# Altium footprint library 1_to_5_Pin.PcbLib: 174 footprints (part 1 of 11)
Each footprint in its own frame and in the unit in brackets; x right, y up, seen from the top. Pads: shape width x height; smd on the part's side, far side on the other; paste and mask are expansions set on the pad; w line width, h text height; cw(c..) or ccw(c..) is an arc to the next point about the centre after c.
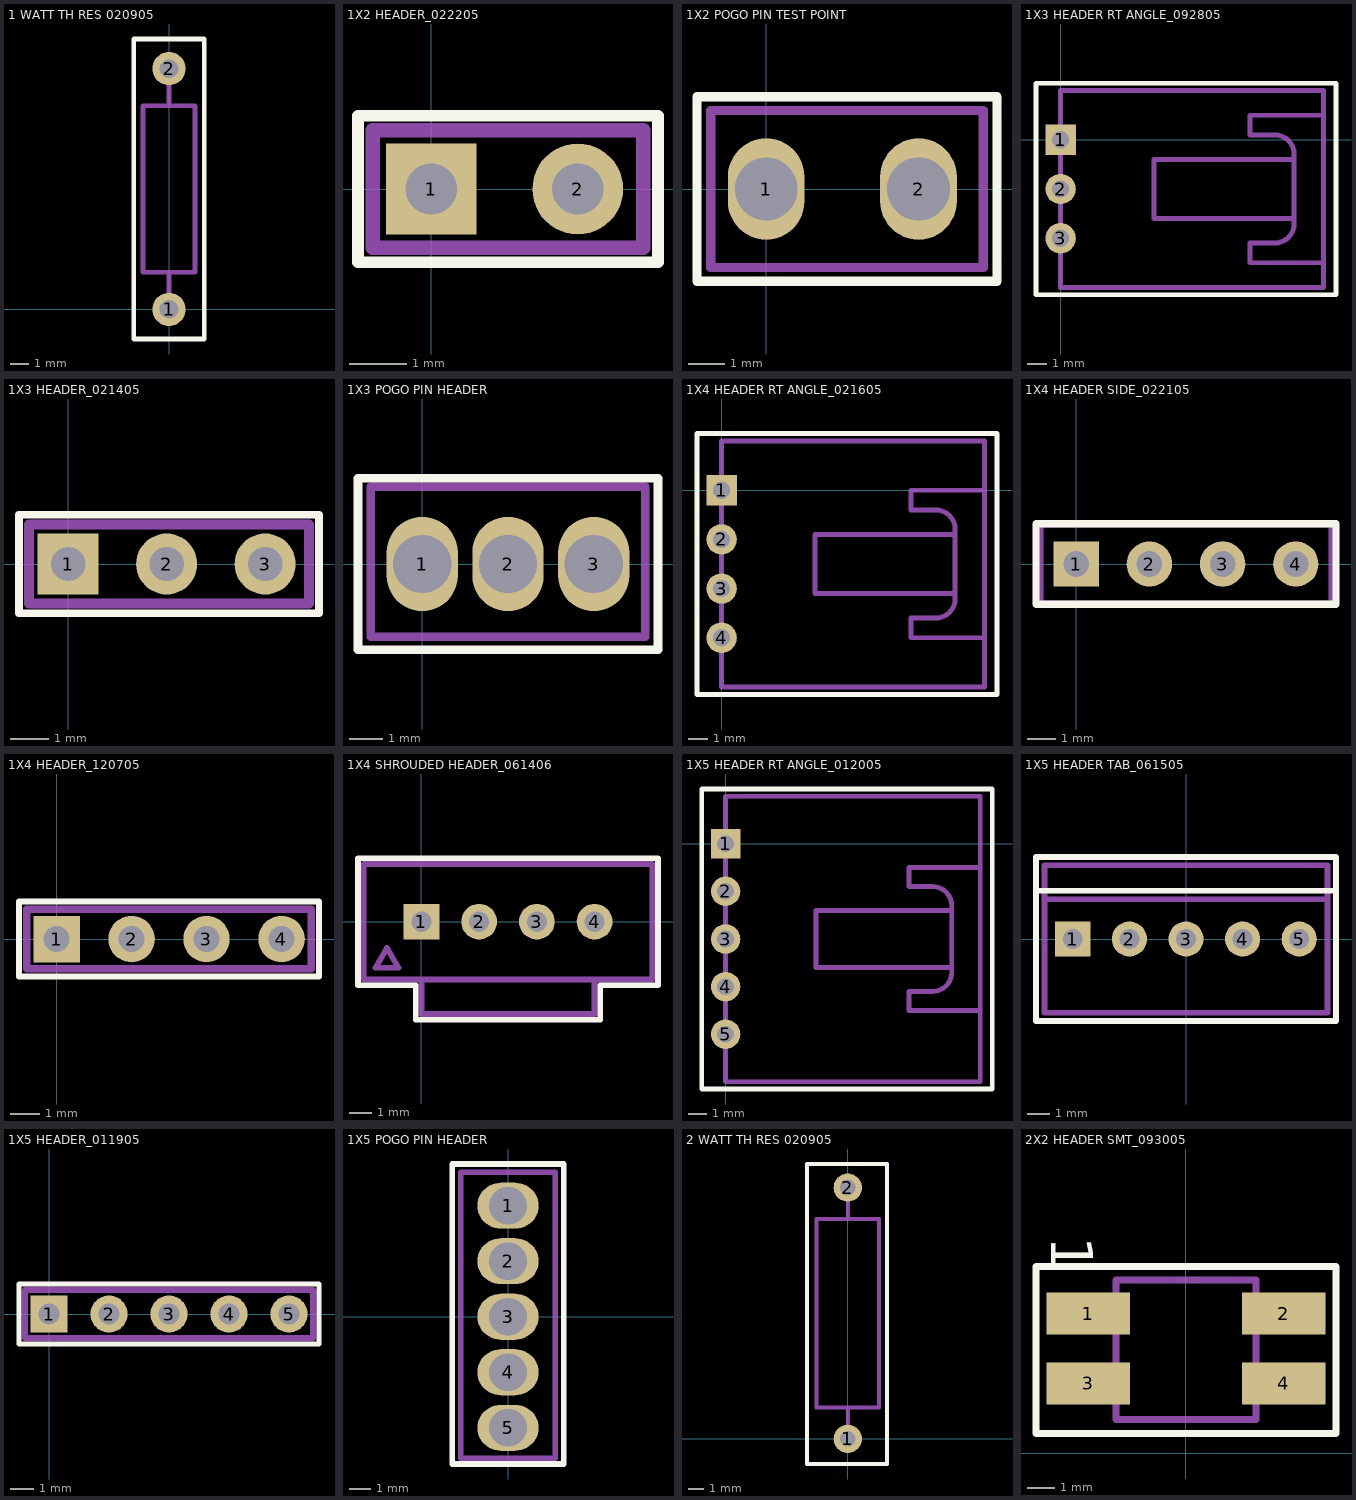
[diagram p0: the footprints below, top view; thin cyan lines are the x and y axes]

## 1 WATT TH RES 020905 [mm] "TH"
height 3.175
pads (2):
  round 1.8 hole 1: 1(0,0) 2(0,13)
Top Overlay:
  lines w0.254: -1.9,-1.6 -1.9,14.6 0,14.6 1.9,14.6 1.9,-1.6 -1.9,-1.6
Assembly Outline:
  lines w0.254: 0,0 0,2 1.4,2 ; 0,13 0,11 -1.4,11 ; -1.4,11 -1.4,2 1.4,2 ; -1.4,11 1.4,11 1.4,2
Assembly Designator:
  text ".Designator" at -2.286,2.794 h1.52
Assembly Comment:
  text ".Comment" at 3.556,3.683 h1.52

## 1X2 HEADER_022205 [mil] "TH"
height 315
pads (2):
  rect 62x62 hole 35: 1(0,0)
  round 62 hole 35: 2(100,0)
Top Overlay:
  lines w8: -50,-50 154.72,-50 154.72,50 -50,50 -50,-50
Assembly Outline:
  lines w10: -40,-40 144.72,-40 144.72,40 -40,40 -40,-40 ; -15,-15 -15,15 15,15 15,-15 -15,-15 ; 85,-15 85,15 115,15 115,-15 85,-15
Assembly Designator:
  text ".Designator" at -20,-20 h40
Assembly Comment:
  text ".Comment" at -75,-100 h40

## 1X2 POGO PIN TEST POINT [mil] "TH"
height 750
pads (2):
  oval 83x110 hole 68: 1(0,0) 2(165,0)
Top Overlay:
  lines w10: -75,-100 250,-100 250,100 0,100 -75,100 -75,-100
Assembly Outline:
  lines w10: -60,-85 235,-85 235,85 -60,85 -60,-85
Assembly Designator:
  text ".Designator" at 50,-15 h40
Assembly Comment:
  text ".Comment" at -80,-145 h40

## 1X3 HEADER RT ANGLE_092805 [mil] "TH"
height 200
pads (3):
  rect 62x62 hole 35: 1(0,0)
  round 62 hole 35: 2(0,-100) 3(0,-200)
Top Overlay:
  lines w10: -50,-315 -50,115 560,115 560,-315 -50,-315
Assembly Outline:
  lines w10: 0,-300 0,100 ; 0,-300 0,100 ; 0,-300 535,-300 ; 0,-300 535,-300 ; 0,-300 535,-300 ; 0,-300 535,-300 ; 0,100 535,100 ; 0,100 535,100 ; 0,100 535,100 ; 0,100 535,100 ; 190,-160 190,-40 ; 190,-160 475,-160 190,-160 ; 190,-40 475,-40 190,-40 ; 385,-250 385,-210 435,-210 ccw(c435,-170) 475,-170 475,-100 475,-30 ccw(c435,-30) 435,10 385,10 385,50 ; 385,-250 535,-250 385,-250 ; 385,50 535,50 385,50 ; 535,-300 535,100
Assembly Designator:
  text ".Designator" at 215,-115 h40
Assembly Comment:
  text ".Comment" at 135,-370 h40

## 1X3 HEADER_021405 [mil] "TH"
height 375
pads (3):
  rect 62x62 hole 35: 1(0,0)
  round 62 hole 35: 2(100,0) 3(200,0)
Top Overlay:
  lines w8: -50,-50 254.72,-50 254.72,50 -50,50 -50,-50
Assembly Outline:
  lines w10: -40,-40 244.72,-40 244.72,40 -40,40 -40,-40 ; -10,-10 10,-10 10,10 -10,10 -10,-10 ; 90,-10 90,10 110,10 110,-10 90,-10 ; 190,-10 190,10 210,10 210,-10 190,-10
Assembly Designator:
  text ".Designator" at -20,-15 h40
Assembly Comment:
  text ".Comment" at -40,-100 h40

## 1X3 POGO PIN HEADER [mil] "TH"
height 350
pads (3):
  oval 83x110 hole 68: 1(0,0) 2(100,0) 3(200,0)
Top Overlay:
  lines w10: -75,-100 275,-100 275,100 100,100 -75,100 -75,-100
Assembly Outline:
  lines w10: -60,-85 260,-85 260,90 -60,90 -60,-85
Assembly Designator:
  text ".Designator" at 40,120 h40
Assembly Comment:
  text ".Comment" at -70,-150 h40

## 1X4 HEADER RT ANGLE_021605 [mil] "TH"
height 200
pads (4):
  rect 62x62 hole 35: 1(0,0)
  round 62 hole 35: 2(0,-100) 3(0,-200) 4(0,-300)
Top Overlay:
  lines w10: -50,-415 560,-415 560,115 -50,115 -50,-415
Assembly Outline:
  lines w10: 0,-400 0,100 ; 0,-400 535,-400 ; 0,-400 535,-400 ; 0,-400 535,-400 ; 0,-400 535,-400 ; 0,-400 0,100 ; 0,100 535,100 ; 0,100 535,100 ; 0,100 535,100 ; 0,100 535,100 ; 190,-210 190,-90 ; 190,-210 475,-210 190,-210 ; 190,-90 475,-90 190,-90 ; 385,-300 385,-260 435,-260 ccw(c435,-220) 475,-220 475,-150 475,-80 ccw(c435,-80) 435,-40 385,-40 385,0 ; 385,-300 535,-300 385,-300 ; 385,0 535,0 385,0 ; 535,-400 535,100
Assembly Designator:
  text ".Designator" at 195,-165 h40
Assembly Comment:
  text ".Comment" at 55,-370 h40

## 1X4 HEADER SIDE_022105 [mil] "TH"
height 315
pads (4):
  rect 62x62 hole 35: 1(0,0)
  round 62 hole 35: 2(100,0) 3(200,0) 4(300,0)
Top Overlay:
  lines w10: -55,-55 -55,55 355,55 355,-55 -55,-55
Assembly Outline:
  lines w10: -50,-55 -50,55 150,55 350,55 350,-55 -50,-55 ; -15,-15 -15,15 15,15 15,-15 -15,-15 ; 85,-15 85,15 115,15 115,-15 85,-15 ; 185,-15 185,15 215,15 215,-15 185,-15 ; 285,-15 285,15 315,15 315,-15 285,-15
Assembly Designator:
  text ".Designator" at 10,-20 h40
Assembly Comment:
  text ".Comment" at -40,-110 h40

## 1X4 HEADER_120705 [mil] "TH"
height 315
pads (4):
  rect 62x62 hole 35: 1(0,0)
  round 62 hole 35: 2(100,0) 3(200,0) 4(300,0)
Top Overlay:
  lines w8: -50,-50 -50,50 350,50 350,-50 -50,-50
Assembly Outline:
  lines w10: 287,-12 287,13 ; 287,-12 312,-12 ; 287,-12 287,13 ; 287,-12 312,-12 ; 287,13 312,13 ; 287,13 312,13 ; 312,-12 312,13 ; 312,-12 312,13 ; -40,-40 -40,40 340,40 340,-40 -40,-40 ; -13,-12 -13,13 12,13 12,-12 -13,-12 ; 87,-12 87,13 112,13 112,-12 87,-12 ; 187,-12 187,13 212,13 212,-12 187,-12
Assembly Designator:
  text ".Designator" at 120,-105 h40
Assembly Comment:
  text ".Comment" at 5,60 h40

## 1X4 SHROUDED HEADER_061406 [mil] "TH"
height 533.86
pads (4):
  rect 62x62 hole 35: 1(0,0)
  round 62 hole 35: 2(100,0) 3(200,0) 4(300,0)
Top Overlay:
  lines w10: -110,-110 -10,-110 -10,-170 310,-170 310,-110 410,-110 410,110 -110,110 -110,-110
Assembly Outline:
  lines w10: 0,-100 0,-160 150,-160 300,-160 300,-100 ; -100,-100 -100,0 -100,100 400,100 400,-100 -100,-100 ; -80,-80 -40,-80 -60,-45.36 -80,-80
Assembly Designator:
  text ".Designator" at 107.2,-83.35 h40
Assembly Comment:
  text ".Comment" at -77.76,45.28 h40

## 1X5 HEADER RT ANGLE_012005 [mil] "TH"
height 275
pads (5):
  rect 62x62 hole 35: 1(0,0)
  round 62 hole 35: 2(0,-100) 3(0,-200) 4(0,-300) 5(0,-400)
Top Overlay:
  lines w10: -50,-515 -50,115 560,115 560,-515 -50,-515
Assembly Outline:
  lines w10: 190,-200 190,-140 ; 0,-500 0,100 ; 0,-500 0,100 ; 0,-500 535,-500 ; 0,-500 535,-500 ; 0,-500 535,-500 ; 0,-500 535,-500 ; 0,100 535,100 ; 0,100 535,100 ; 0,100 535,100 ; 0,100 535,100 ; 190,-260 475,-260 190,-260 ; 190,-260 190,-140 ; 190,-140 475,-140 190,-140 ; 385,-350 535,-350 385,-350 ; 385,-350 385,-310 435,-310 ccw(c435,-270) 475,-270 475,-200 475,-130 ccw(c435,-130) 435,-90 385,-90 385,-50 ; 385,-50 535,-50 385,-50 ; 535,-500 535,100
Assembly Designator:
  text ".Designator" at 165,-100 h40
Assembly Comment:
  text ".Comment" at 25,-475 h40

## 1X5 HEADER TAB_061505 [mil] "TH"
height 750
pads (5):
  rect 62x62 hole 35: 1(-200,0)
  round 62 hole 35: 2(-100,0) 3(0,0) 4(100,0) 5(200,0)
Top Overlay:
  lines w10: 265,85 -265,85 -265,145 ; -265,145 0,145 265,145 265,-145 -265,-145 -265,145
Assembly Outline:
  lines w10: 250,70 -250,70 -250,130 ; -250,130 0,130 250,130 250,-130 -250,-130 -250,130
Assembly Designator:
  text ".Designator" at -25,-90 h40
Assembly Comment:
  text ".Comment" at -230,-205 h40

## 1X5 HEADER_011905 [mil] "TH"
height 315
pads (5):
  rect 62x62 hole 35: 1(0,0)
  round 62 hole 35: 2(100,0) 3(200,0) 4(300,0) 5(400,0)
Top Overlay:
  lines w8: -50,-50 450,-50 450,50 -50,50 -50,-50
Assembly Outline:
  lines w10: -40,-40 440,-40 440,40 -40,40 -40,-40 ; -13,-12 12,-12 12,13 -13,13 -13,-12 ; 87,-12 112,-12 112,13 87,13 87,-12 ; 187,-12 212,-12 212,13 187,13 187,-12 ; 287,-12 312,-12 312,13 287,13 287,-12 ; 387,-12 412,-12 412,13 387,13 387,-12
Assembly Designator:
  text ".Designator" at 89.57,71.85 h40
Assembly Comment:
  text ".Comment" at -32.48,-109.25 h40

## 1X5 POGO PIN HEADER [mil] "TH"
height 750
pads (5):
  oval 110x83 hole 68: 1(0,200) 2(0,100) 3(0,0) 4(0,-100) 5(0,-200)
Top Overlay:
  lines w10: -100,-265.13 100,-265.13 100,200 100,275 -100,275 -100,-265.13
Assembly Outline:
  lines w10: -85,-255 -85,260 85,260 85,-255 -85,-255
Assembly Designator:
  text ".Designator" at -15,70 h40
Assembly Comment:
  text ".Comment" at -10,225 h40

## 2 WATT TH RES 020905 [mm] "TH"
height 3.556
pads (2):
  round 1.8 hole 1: 1(0,0) 2(0,16)
Top Overlay:
  lines w0.254: -2.6,-1.6 -2.6,17.5 -0.7,17.5 2.5,17.5 2.5,-1.6 -2.6,-1.6
Assembly Outline:
  lines w0.254: -1.4,2 1.4,2 0,2 0,0 ; 0,16 0,14 2,14 2,2 -2,2 -2,14 -1.4,14 1.4,14 ; 1.4,14 1.4,14
Assembly Designator:
  text ".Designator" at -3.048,3.937 h1.52
Assembly Comment:
  text ".Comment" at 0.762,4.064 h1.52

## 2X2 HEADER SMT_093005 [mil] "SMT"
height 500
pads (4):
  rect 120x60 smd: 1(-140,200) 2(140,200) 3(-140,100) 4(140,100)
Top Overlay:
  lines w10: -215,27.8 0,27.8 215,27.8 215,175.3 215,267.8 0,267.8 -215,267.8 -215,50.3 -215,27.8
  text "1" at -192.91,311.02 h60
Assembly Outline:
  lines w10: -100,85 -160,85 -160,100 -160,115 -100,115 ; -100,185 -160,185 -160,200 -160,215 -100,215 ; 100,85 160,85 160,100 160,115 100,115 ; 100,185 160,185 160,200 160,215 100,215 ; -100,48.03 -100,248.03 0,248.03 100,248.03 100,48.03 -100,48.03
Assembly Designator:
  text ".Designator" at -27.56,122.05 h40
Assembly Comment:
  text ".Comment" at -74.8,-35.43 h40